# Altium schematic symbol library MOSFET.SchLib: 1 symbol
Pins are listed as number, name and electrical type; pins without a type are passive.

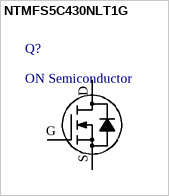
[diagram p0: symbol NTMFS5C430NLT1G]

## NTMFS5C430NLT1G
designator Q?, comment ON Semiconductor
MOSFETN-CH40V200ASO8FL; Manufacturer Part Number 1: NTMFS5C430NLT1G; Category 1: MOSFETs; Drain to Source Voltage (Vdss): 40V; Rds On Max: 1.5mR; Input Capacitance: 4.3nF; Max Power Dissipation: 110W; Continuous Drain Current (ID): 200A; Threshold Voltage: 2V; Supplier 1: Digi-Key; Supplier Part Number 1: NTMFS5C430NLT1GOSCT-ND; Manufacturer 1: ON Semiconductor; RoHS 1: Yes; Description 1: MOSFETN-CH40V200ASO8FL; Stock 1: 41908; Pricing 1: 1=2.32000, 10=2.08500, 100=1.67570, 500=1.37676 (USD); Mount: Surface Mount; Case/Package: DFN; Number of Pins: 8; Min Operating Temperature: -55°C; Max Operating Temperature: 175°C; Packaging: Cut Tape; Series: -; Reach SVHC Compliant: Yes; Lead Free: Lead Free; RoHS Compliant: Yes; ComponentLink1URL: http://www.farnell.com/datasheets/2354966.pdf?src-supplier=Farnell; ComponentLink1Description: http://www.farnell.com/datasheets/2354966.pdf?src-supplier=Farnell; ComponentLink2URL: http://www.mouser.com/ds/2/308/NTMFS5C430NL-D-775546.pdf?src-supplier=Mouser; ComponentLink2Description: http://www.mouser.com/ds/2/308/NTMFS5C430NL-D-775546.pdf?src-supplier=Mouser; ComponentLink3URL: http://www.farnell.com/datasheets/2354966.pdf?src-supplier=Element14; ComponentLink3Description: http://www.farnell.com/datasheets/2354966.pdf?src-supplier=Element14; ComponentLink4URL: http://www.farnell.com/datasheets/2354966.pdf?src-supplier=Newark; ComponentLink4Description: http://www.farnell.com/datasheets/2354966.pdf?src-supplier=Newark; ComponentLink5URL: http://www.onsemi.com/pub/Collateral/NTMFS5C430NL-D.PDF?src-supplier=Digi-Key; ComponentLink5Description: http://www.onsemi.com/pub/Collateral/NTMFS5C430NL-D.PDF?src-supplier=Digi-Key; Supplier 2: Digi-Key; Supplier Part Number 2: NTMFS5C430NLT1GOSDKR-ND; Manufacturer 2: ON Semiconductor; Manufacturer Part Number 2: NTMFS5C430NLT1G; RoHS 2: Yes; Description 2: MOSFETN-CH40V200ASO8FL; Category 2: MOSFETs; Stock 2: 41908; Pricing 2: 1=2.32000, 10=2.08500, 100=1.67570, 500=1.37676 (USD); Supplier 3: Digi-Key; Supplier Part Number 3: NTMFS5C430NLT1GOSTR-ND; Manufacturer 3: ON Semiconductor; Manufacturer Part Number 3: NTMFS5C430NLT1G; RoHS 3: Yes; Description 3: MOSFETN-CH40V200ASO8FL; Category 3: MOSFETs; Stock 3: 40500; Pricing 3: 1500=1.14075, 3000=1.06207, 7500=1.02274 (USD); Supplier 4: Mouser; Supplier Part Number 4: 863-NTMFS5C430NLT1G; Manufacturer 4: ON Semiconductor; Manufacturer Part Number 4: NTMFS5C430NLT1G; RoHS 4: Yes; Description 4: MOSFETN-CH40V200ASO8FL; Category 4: MOSFETs; Stock 4: 4469; Pricing 4: 1=2.31000, 10=2.08000, 25=1.97000, 50=1.97000, 100=1.68000, 500=1.38000, 1000=1.14000, 1500=1.03000, 4500=1.00000, 10000=1.00000 (USD); Supplier 5: LCSC; Supplier Part Number 5: C194661; Manufacturer 5: ON Semiconductor; Manufacturer Part Number 5: NTMFS5C430NLT1G; RoHS 5: Yes; Description 5: MOSFETN-CH40V200ASO8FL; Category 5: MOSFETs; Stock 5: 3519; Pricing 5: 1=0.87980, 30=0.85120 (USD)
footprint DFN5x6_SO8FL (DFN5 5x6, 1.27P  (SO-8FL)  CASE 488AA  ISSUE M)
pins: D Drain, G Gate, S Source